# Altium integrated library Xilinx XC4000 XL.IntLib: 450 symbols (part 37 of 49)
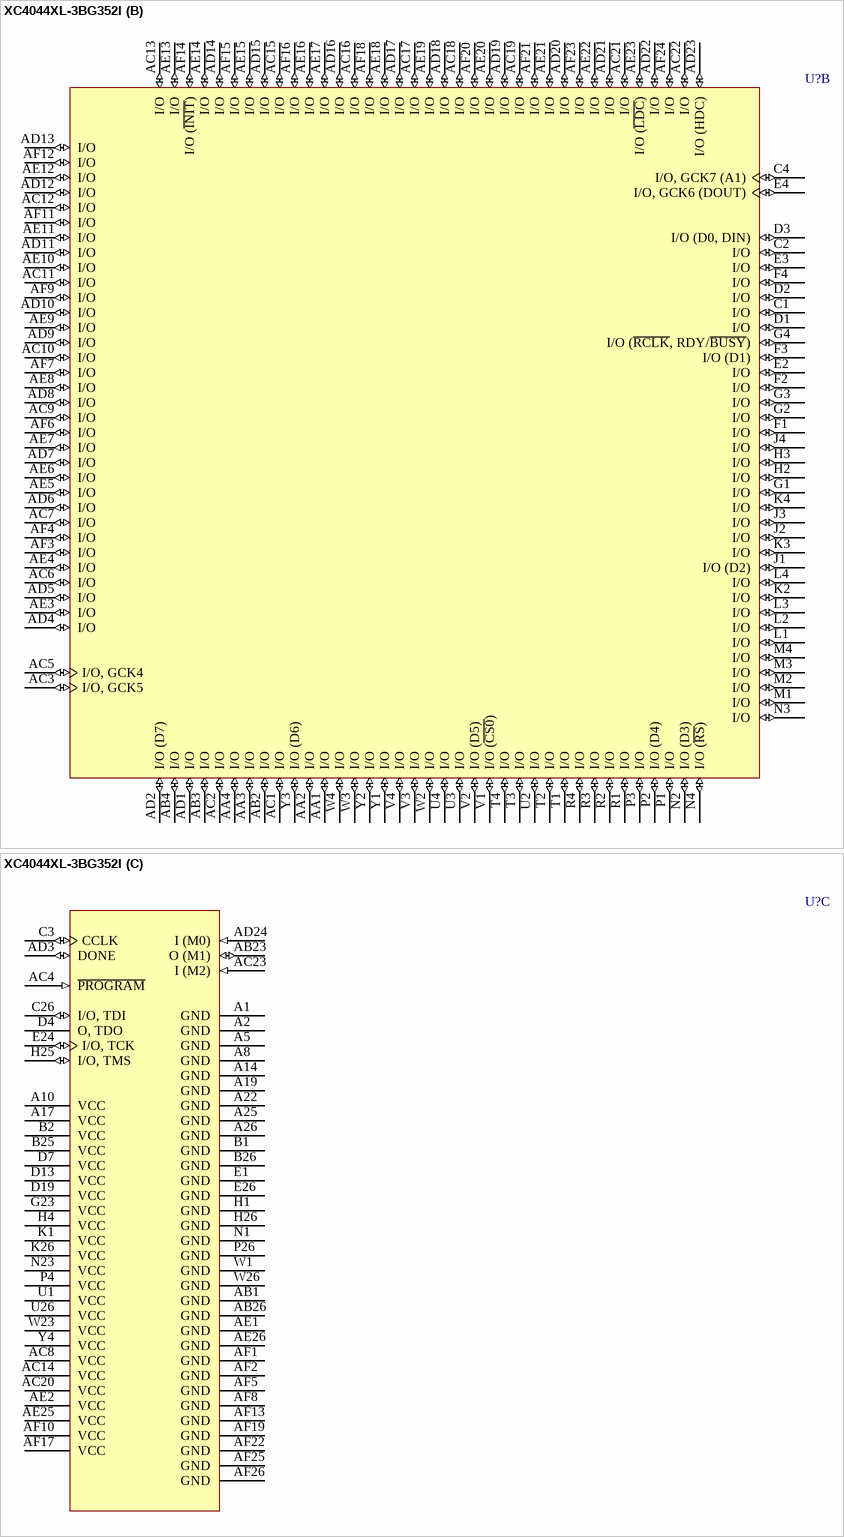
[diagram p435: symbol XC4044XL-3BG352I]

## XC4052XL-2HQ240I
designator U?
XC4000XL FPGA, 240-Pin HQFP, Industrial Grade; PackageDocument: ver1.1, Oct-2002; Published: 28-Feb-2003; DatasheetDocument: (v1.6) May-99; PackageReference: HQ240; Publisher: Altium Limited; Code_JEDEC: MO-143-GA
footprint HQ240 (240-Pin Heat Sink Quad Flat Pack (HQ240))
part A pins: 2 I/O, GCK1 (A16) (io), 3 I/O (A17) (io), 4 I/O (io), 5 I/O (io), 8 I/O (io), 9 I/O (io), 10 I/O (io), 11 I/O (io), 12 I/O (io), 13 I/O (io), 15 I/O (io), 16 I/O (io), 18 I/O (io), 20 I/O (io), 21 I/O (io), 23 I/O (io), 24 I/O (io), 25 I/O (io), 26 I/O (io), 27 I/O (io), 28 I/O (io), 31 I/O (io), 32 I/O (io), 33 I/O (io), 34 I/O (io), 35 I/O (io), 36 I/O (io), 38 I/O (io), 39 I/O (io), 41 I/O (io), 42 I/O (io), 43 I/O (io), 44 I/O (io), 46 I/O (io), 47 I/O (io), 48 I/O (io), 49 I/O (io), 50 I/O (io), 51 I/O (io), 52 I/O (io), 53 I/O (io), 54 I/O (io), 55 I/O (io), 56 I/O (io), 57 I/O, GCK2 (io), 63 I/O, GCK3 (io), 64 I/O (HDC) (io), 65 I/O (io), 66 I/O (io), 67 I/O (io), 68 I/O (~{LDC}) (io), 69 I/O (io), 70 I/O (io), 71 I/O (io), 72 I/O (io), 73 I/O (io), 74 I/O (io), 76 I/O (io), 77 I/O (io), 78 I/O (io), 79 I/O (io), 81 I/O (io), 82 I/O (io), 84 I/O (io), 85 I/O (io), 86 I/O (io), 87 I/O (io), 88 I/O (io), 89 I/O (~{INIT}) (io), 92 I/O (io), 93 I/O (io), 94 I/O (io), 95 I/O (io), 96 I/O (io), 97 I/O (io), 99 I/O (io), 100 I/O (io), 102 I/O (io), 103 I/O (io), 104 I/O (io), 105 I/O (io), 107 I/O (io), 108 I/O (io), 109 I/O (io), 110 I/O (io), 111 I/O (io), 112 I/O (io), 113 I/O (io), 114 I/O (io), 115 I/O (io), 116 I/O (io), 117 I/O (io), 118 I/O, GCK4 (io), 123 I/O (D7) (io), 124 I/O, GCK5 (io), 125 I/O (io), 126 I/O (io), 127 I/O (io), 128 I/O (io), 129 I/O (D6) (io), 130 I/O (io), 131 I/O (io), 132 I/O (io), 133 I/O (io), 134 I/O (io), 136 I/O (io), 137 I/O (io), 138 I/O (io), 139 I/O (io), 141 I/O (D5) (io), 142 I/O (~{CS0}) (io), 144 I/O (io), 145 I/O (io), 146 I/O (io), 147 I/O (io), 148 I/O (D4) (io), 149 I/O (io), 152 I/O (D3) (io), 153 I/O (~{RS}) (io), 154 I/O (io), 155 I/O (io), 156 I/O (io), 157 I/O (io), 159 I/O (D2) (io), 160 I/O (io), 162 I/O (io), 163 I/O (io), 164 I/O (io), 165 I/O (io), 167 I/O (io), 168 I/O (io), 169 I/O (io), 170 I/O (io), 171 I/O (io), 172 I/O (io), 173 I/O (D1) (io), 174 I/O (~{RCLK}, RDY/~{BUSY}) (io), 175 I/O (io), 176 I/O (io), 177 I/O (D0, DIN) (io), 178 I/O, GCK6 (DOUT) (io), 183 I/O (A0, ~{WS}) (io), 184 I/O, GCK7 (A1) (io), 185 I/O (io), 186 I/O (io), 187 I/O (CS1, A2) (io), 188 I/O (A3) (io), 189 I/O (io), 190 I/O (io), 191 I/O (io), 192 I/O (io), 193 I/O (io), 194 I/O (io), 195 I/O (io), 197 I/O (io), 198 I/O (io), 199 I/O (io), 200 I/O (io), 202 I/O (A4) (io), 203 I/O (A5) (io), 205 I/O (io), 206 I/O (io), 207 I/O (A21) (io), 208 I/O (A20) (io), 209 I/O (A6) (io), 210 I/O (A7) (io), 213 I/O (A8) (io), 214 I/O (A9) (io), 215 I/O (A19) (io), 216 I/O (A18) (io), 217 I/O (io), 218 I/O (io), 220 I/O (A10) (io), 221 I/O (A11) (io), 223 I/O (io), 224 I/O (io), 225 I/O (io), 226 I/O (io), 228 I/O (io), 229 I/O (io), 230 I/O (io), 231 I/O (io), 232 I/O (A12) (io), 233 I/O (A13) (io), 234 I/O (io), 235 I/O (io), 236 I/O (io), 237 I/O (io), 238 I/O (A14) (io), 239 I/O, GCK8 (A15) (io)
part B pins: 1 GND (power), 6 I/O, TDI (io), 7 I/O, TCK (io), 14 GND (power), 17 I/O, TMS (io), 19 VCC (power), 22 GND (power), 29 GND (power), 30 VCC (power), 37 GND (power), 40 VCC (power), 45 GND (power), 58 O (M1) (io), 59 GND (power), 60 I (M0) (in), 61 VCC (power), 62 I (M2) (in), 75 GND (power), 80 VCC (power), 83 GND (power), 90 VCC (power), 91 GND (power), 98 GND (power), 101 VCC (power), 106 GND (power), 119 GND (power), 120 DONE (io), 121 VCC (power), 122 ~{PROGRAM} (in), 135 GND (power), 140 VCC (power), 143 GND (power), 150 VCC (power), 151 GND (power), 158 GND (power), 161 VCC (power), 166 GND (power), 179 CCLK (io), 180 VCC (power), 181 O, TDO (hiz), 182 GND (power), 196 GND (power), 201 VCC (power), 204 GND (power), 211 GND (power), 212 VCC (power), 219 GND (power), 222 VCC (power), 227 GND (power), 240 VCC (power)

## XC4052XL-2HQ304C
designator U?
XC4000XL FPGA, 304-Pin HQFP, Commercial Grade; PackageDocument: ver1.1, Oct-2002; Published: 28-Feb-2003; DatasheetDocument: (v1.6) May-99; PackageReference: HQ304; Publisher: Altium Limited; Code_JEDEC: MO-143-JA
footprint HQ304 (304-Pin Heat Sink Quad Flat Pack (HQ304))
part A pins: 2 I/O, GCK8 (A15) (215) (io), 3 I/O (A14) (212) (io), 4 I/O (209) (io), 5 I/O (206) (io), 6 I/O (203) (io), 7 I/O (200) (io), 8 I/O (191) (io), 9 I/O (188) (io), 10 I/O (A13) (185) (io), 12 I/O (A12) (182) (io), 13 I/O (179) (io), 14 I/O (176) (io), 15 I/O (173) (io), 16 I/O (170) (io), 17 I/O (167) (io), 18 I/O (164) (io), 20 I/O (161) (io), 21 I/O (158) (io), 22 I/O (155) (io), 23 I/O (152) (io), 26 I/O (149) (io), 27 I/O (146) (io), 28 I/O (137) (io), 29 I/O (134) (io), 30 I/O (A11) (131) (io), 31 I/O (A10) (128) (io), 32 I/O (125) (io), 33 I/O (122) (io), 34 I/O (A18) (119) (io), 35 I/O (A19) (116) (io), 36 I/O (A9) (113) (io), 37 I/O (A8) (110) (io), 40 I/O (A7) (107) (io), 41 I/O (A6) (104) (io), 42 I/O (A20) (101) (io), 43 I/O (A21) (98) (io), 44 I/O (95) (io), 45 I/O (92) (io), 46 I/O (A5) (89) (io), 47 I/O (A4) (86) (io), 48 I/O (83) (io), 49 I/O (80) (io), 50 I/O (71) (io), 51 I/O (68) (io), 54 I/O (65) (io), 55 I/O (62) (io), 56 I/O (59) (io), 57 I/O (56) (io), 59 I/O (53) (io), 60 I/O (50) (io), 61 I/O (47) (io), 62 I/O (44) (io), 63 I/O (41) (io), 64 I/O (38) (io), 65 I/O (35) (io), 66 I/O (32) (io), 67 I/O (29) (io), 68 I/O (26) (io), 69 I/O (A3) (23) (io), 70 I/O (CS1, A2) (20) (io), 71 I/O (11) (io), 72 I/O (8) (io), 74 I/O (A0, ~{WS}) (2) (io), 226 I/O, GCK3 (439) (io), 232 I/O, GCK2 (431) (io), 233 I/O (428) (io), 234 I/O (425) (io), 235 I/O (422) (io), 236 I/O (413) (io), 237 I/O (410) (io), 238 I/O (407) (io), 239 I/O (404) (io), 240 I/O (401) (io), 241 I/O (398) (io), 242 I/O (395) (io), 243 I/O (392) (io), 244 I/O (389) (io), 245 I/O (386) (io), 246 I/O (383) (io), 247 I/O (380) (io), 249 I/O (377) (io), 250 I/O (374) (io), 251 I/O (371) (io), 252 I/O (368) (io), 255 I/O (365) (io), 256 I/O (362) (io), 257 I/O (353) (io), 258 I/O (350) (io), 259 I/O (347) (io), 260 I/O (344) (io), 261 I/O (341) (io), 262 I/O (338) (io), 263 I/O (335) (io), 264 I/O (332) (io), 265 I/O (329) (io), 266 I/O (326) (io), 269 I/O (323) (io), 270 I/O (320) (io), 271 I/O (317) (io), 272 I/O (314) (io), 273 I/O (311) (io), 274 I/O (308) (io), 275 I/O (305) (io), 276 I/O (302) (io), 277 I/O (299) (io), 278 I/O (296) (io), 279 I/O (287) (io), 280 I/O (284) (io), 283 I/O (281) (io), 285 I/O (275) (io), 286 I/O (272) (io), 288 I/O (269) (io), 289 I/O (266) (io), 290 I/O (263) (io), 291 I/O (260) (io), 292 I/O (257) (io), 293 I/O (254) (io), 294 I/O (251) (io), 295 I/O (248) (io), 296 I/O (245) (io), 297 I/O (242) (io), 300 I/O (227) (io), 301 I/O (224) (io), 302 I/O (A17) (221) (io), 303 I/O, GCK1 (A16) (218) (io)
part B pins: 73 I/O, GCK7 (A1) (5) (io), 79 I/O, GCK6 (DOUT) (868) (io), 80 I/O (D0, DIN) (865) (io), 81 I/O (862) (io), 82 I/O (859) (io), 83 I/O (856) (io), 84 I/O (853) (io), 85 I/O (~{RCLK}, RDY/~{BUSY}) (844) (io), 86 I/O (D1) (841) (io), 87 I/O (838) (io), 88 I/O (835) (io), 89 I/O (832) (io), 90 I/O (829) (io), 91 I/O (826) (io), 92 I/O (823) (io), 93 I/O (820) (io), 94 I/O (817) (io), 96 I/O (814) (io), 97 I/O (811) (io), 98 I/O (808) (io), 99 I/O (805) (io), 102 I/O (802) (io), 103 I/O (D2) (799) (io), 104 I/O (790) (io), 105 I/O (787) (io), 106 I/O (784) (io), 107 I/O (781) (io), 108 I/O (778) (io), 109 I/O (775) (io), 110 I/O (772) (io), 111 I/O (769) (io), 112 I/O (~{RS}) (766) (io), 113 I/O (D3) (763) (io), 116 I/O (760) (io), 117 I/O (D4) (757) (io), 118 I/O (754) (io), 119 I/O (751) (io), 120 I/O (748) (io), 121 I/O (745) (io), 122 I/O (742) (io), 123 I/O (739) (io), 124 I/O (736) (io), 125 I/O (733) (io), 126 I/O (~{CS0}) (724) (io), 127 I/O (D5) (721) (io), 130 I/O (718) (io), 131 I/O (715) (io), 132 I/O (712) (io), 133 I/O (709) (io), 135 I/O (706) (io), 136 I/O (703) (io), 137 I/O (700) (io), 138 I/O (697) (io), 139 I/O (694) (io), 140 I/O (691) (io), 141 I/O (688) (io), 142 I/O (D6) (685) (io), 143 I/O (682) (io), 144 I/O (679) (io), 145 I/O (676) (io), 146 I/O (673) (io), 147 I/O (664) (io), 148 I/O (661) (io), 149 I/O, GCK5 (658) (io), 150 I/O (D7) (655) (io), 155 I/O, GCK4 (652) (io), 156 I/O (649) (io), 157 I/O (646) (io), 158 I/O (643) (io), 159 I/O (634) (io), 160 I/O (631) (io), 161 I/O (628) (io), 162 I/O (625) (io), 163 I/O (622) (io), 164 I/O (619) (io), 165 I/O (616) (io), 166 I/O (613) (io), 167 I/O (610) (io), 168 I/O (607) (io), 169 I/O (604) (io), 170 I/O (601) (io), 172 I/O (598) (io), 173 I/O (595) (io), 174 I/O (592) (io), 175 I/O (589) (io), 178 I/O (586) (io), 179 I/O (583) (io), 180 I/O (574) (io), 181 I/O (571) (io), 182 I/O (568) (io), 183 I/O (565) (io), 184 I/O (562) (io), 185 I/O (559) (io), 186 I/O (556) (io), 187 I/O (553) (io), 188 I/O (550) (io), 189 I/O (547) (io), 192 I/O (~{INIT}) (544) (io), 193 I/O (541) (io), 194 I/O (538) (io), 195 I/O (535) (io), 196 I/O (532) (io), 197 I/O (529) (io), 198 I/O (526) (io), 199 I/O (523) (io), 200 I/O (520) (io), 201 I/O (517) (io), 202 I/O (508) (io), 203 I/O (505) (io), 206 I/O (502) (io), 207 I/O (499) (io), 208 I/O (496) (io), 209 I/O (493) (io), 211 I/O (490) (io), 212 I/O (487) (io), 213 I/O (484) (io), 214 I/O (481) (io), 215 I/O (478) (io), 216 I/O (475) (io), 217 I/O (472) (io), 218 I/O (469) (io), 219 I/O (466) (io), 220 I/O (463) (io), 221 I/O (~{LDC}) (454) (io), 222 I/O (451) (io), 223 I/O (448) (io), 224 I/O (445) (io), 225 I/O (HDC) (442) (io)
part C pins: 1 VCC (power), 11 NC, 19 GND (power), 24 NC, 25 VCC (power), 38 VCC (power), 39 GND (power), 52 VCC (power), 53 NC, 58 GND (power), 75 GND (power), 76 O, TDO (0) (hiz), 77 VCC (power), 78 CCLK (io), 95 GND (power), 100 NC, 101 VCC (power), 114 GND (power), 115 VCC (power), 128 NC, 129 VCC (power), 134 GND (power), 151 ~{PROGRAM} (in), 152 VCC (power), 153 DONE (io), 154 GND (power), 171 GND (power), 176 NC, 177 VCC (power), 190 GND (power), 191 VCC (power), 204 VCC (power), 205 NC, 210 GND (power), 227 I (M2) (438) (in), 228 VCC (power), 229 I (M0) (437) (in), 230 GND (power), 231 O (M1) (434) (io), 248 GND (power), 253 VCC (power), 254 NC, 267 VCC (power), 268 GND (power), 281 NC, 282 VCC (power), 284 I/O, TMS (278) (io), 287 GND (power), 298 I/O, TCK (233) (io), 299 I/O, TDI (230) (io), 304 GND (power)

## XC4052XL-2HQ304I
designator U?
XC4000XL FPGA, 304-Pin HQFP, Industrial Grade; PackageDocument: ver1.1, Oct-2002; Published: 28-Feb-2003; DatasheetDocument: (v1.6) May-99; PackageReference: HQ304; Publisher: Altium Limited; Code_JEDEC: MO-143-JA
footprint HQ304 (304-Pin Heat Sink Quad Flat Pack (HQ304))
part A pins: 2 I/O, GCK8 (A15) (215) (io), 3 I/O (A14) (212) (io), 4 I/O (209) (io), 5 I/O (206) (io), 6 I/O (203) (io), 7 I/O (200) (io), 8 I/O (191) (io), 9 I/O (188) (io), 10 I/O (A13) (185) (io), 12 I/O (A12) (182) (io), 13 I/O (179) (io), 14 I/O (176) (io), 15 I/O (173) (io), 16 I/O (170) (io), 17 I/O (167) (io), 18 I/O (164) (io), 20 I/O (161) (io), 21 I/O (158) (io), 22 I/O (155) (io), 23 I/O (152) (io), 26 I/O (149) (io), 27 I/O (146) (io), 28 I/O (137) (io), 29 I/O (134) (io), 30 I/O (A11) (131) (io), 31 I/O (A10) (128) (io), 32 I/O (125) (io), 33 I/O (122) (io), 34 I/O (A18) (119) (io), 35 I/O (A19) (116) (io), 36 I/O (A9) (113) (io), 37 I/O (A8) (110) (io), 40 I/O (A7) (107) (io), 41 I/O (A6) (104) (io), 42 I/O (A20) (101) (io), 43 I/O (A21) (98) (io), 44 I/O (95) (io), 45 I/O (92) (io), 46 I/O (A5) (89) (io), 47 I/O (A4) (86) (io), 48 I/O (83) (io), 49 I/O (80) (io), 50 I/O (71) (io), 51 I/O (68) (io), 54 I/O (65) (io), 55 I/O (62) (io), 56 I/O (59) (io), 57 I/O (56) (io), 59 I/O (53) (io), 60 I/O (50) (io), 61 I/O (47) (io), 62 I/O (44) (io), 63 I/O (41) (io), 64 I/O (38) (io), 65 I/O (35) (io), 66 I/O (32) (io), 67 I/O (29) (io), 68 I/O (26) (io), 69 I/O (A3) (23) (io), 70 I/O (CS1, A2) (20) (io), 71 I/O (11) (io), 72 I/O (8) (io), 74 I/O (A0, ~{WS}) (2) (io), 226 I/O, GCK3 (439) (io), 232 I/O, GCK2 (431) (io), 233 I/O (428) (io), 234 I/O (425) (io), 235 I/O (422) (io), 236 I/O (413) (io), 237 I/O (410) (io), 238 I/O (407) (io), 239 I/O (404) (io), 240 I/O (401) (io), 241 I/O (398) (io), 242 I/O (395) (io), 243 I/O (392) (io), 244 I/O (389) (io), 245 I/O (386) (io), 246 I/O (383) (io), 247 I/O (380) (io), 249 I/O (377) (io), 250 I/O (374) (io), 251 I/O (371) (io), 252 I/O (368) (io), 255 I/O (365) (io), 256 I/O (362) (io), 257 I/O (353) (io), 258 I/O (350) (io), 259 I/O (347) (io), 260 I/O (344) (io), 261 I/O (341) (io), 262 I/O (338) (io), 263 I/O (335) (io), 264 I/O (332) (io), 265 I/O (329) (io), 266 I/O (326) (io), 269 I/O (323) (io), 270 I/O (320) (io), 271 I/O (317) (io), 272 I/O (314) (io), 273 I/O (311) (io), 274 I/O (308) (io), 275 I/O (305) (io), 276 I/O (302) (io), 277 I/O (299) (io), 278 I/O (296) (io), 279 I/O (287) (io), 280 I/O (284) (io), 283 I/O (281) (io), 285 I/O (275) (io), 286 I/O (272) (io), 288 I/O (269) (io), 289 I/O (266) (io), 290 I/O (263) (io), 291 I/O (260) (io), 292 I/O (257) (io), 293 I/O (254) (io), 294 I/O (251) (io), 295 I/O (248) (io), 296 I/O (245) (io), 297 I/O (242) (io), 300 I/O (227) (io), 301 I/O (224) (io), 302 I/O (A17) (221) (io), 303 I/O, GCK1 (A16) (218) (io)
part B pins: 73 I/O, GCK7 (A1) (5) (io), 79 I/O, GCK6 (DOUT) (868) (io), 80 I/O (D0, DIN) (865) (io), 81 I/O (862) (io), 82 I/O (859) (io), 83 I/O (856) (io), 84 I/O (853) (io), 85 I/O (~{RCLK}, RDY/~{BUSY}) (844) (io), 86 I/O (D1) (841) (io), 87 I/O (838) (io), 88 I/O (835) (io), 89 I/O (832) (io), 90 I/O (829) (io), 91 I/O (826) (io), 92 I/O (823) (io), 93 I/O (820) (io), 94 I/O (817) (io), 96 I/O (814) (io), 97 I/O (811) (io), 98 I/O (808) (io), 99 I/O (805) (io), 102 I/O (802) (io), 103 I/O (D2) (799) (io), 104 I/O (790) (io), 105 I/O (787) (io), 106 I/O (784) (io), 107 I/O (781) (io), 108 I/O (778) (io), 109 I/O (775) (io), 110 I/O (772) (io), 111 I/O (769) (io), 112 I/O (~{RS}) (766) (io), 113 I/O (D3) (763) (io), 116 I/O (760) (io), 117 I/O (D4) (757) (io), 118 I/O (754) (io), 119 I/O (751) (io), 120 I/O (748) (io), 121 I/O (745) (io), 122 I/O (742) (io), 123 I/O (739) (io), 124 I/O (736) (io), 125 I/O (733) (io), 126 I/O (~{CS0}) (724) (io), 127 I/O (D5) (721) (io), 130 I/O (718) (io), 131 I/O (715) (io), 132 I/O (712) (io), 133 I/O (709) (io), 135 I/O (706) (io), 136 I/O (703) (io), 137 I/O (700) (io), 138 I/O (697) (io), 139 I/O (694) (io), 140 I/O (691) (io), 141 I/O (688) (io), 142 I/O (D6) (685) (io), 143 I/O (682) (io), 144 I/O (679) (io), 145 I/O (676) (io), 146 I/O (673) (io), 147 I/O (664) (io), 148 I/O (661) (io), 149 I/O, GCK5 (658) (io), 150 I/O (D7) (655) (io), 155 I/O, GCK4 (652) (io), 156 I/O (649) (io), 157 I/O (646) (io), 158 I/O (643) (io), 159 I/O (634) (io), 160 I/O (631) (io), 161 I/O (628) (io), 162 I/O (625) (io), 163 I/O (622) (io), 164 I/O (619) (io), 165 I/O (616) (io), 166 I/O (613) (io), 167 I/O (610) (io), 168 I/O (607) (io), 169 I/O (604) (io), 170 I/O (601) (io), 172 I/O (598) (io), 173 I/O (595) (io), 174 I/O (592) (io), 175 I/O (589) (io), 178 I/O (586) (io), 179 I/O (583) (io), 180 I/O (574) (io), 181 I/O (571) (io), 182 I/O (568) (io), 183 I/O (565) (io), 184 I/O (562) (io), 185 I/O (559) (io), 186 I/O (556) (io), 187 I/O (553) (io), 188 I/O (550) (io), 189 I/O (547) (io), 192 I/O (~{INIT}) (544) (io), 193 I/O (541) (io), 194 I/O (538) (io), 195 I/O (535) (io), 196 I/O (532) (io), 197 I/O (529) (io), 198 I/O (526) (io), 199 I/O (523) (io), 200 I/O (520) (io), 201 I/O (517) (io), 202 I/O (508) (io), 203 I/O (505) (io), 206 I/O (502) (io), 207 I/O (499) (io), 208 I/O (496) (io), 209 I/O (493) (io), 211 I/O (490) (io), 212 I/O (487) (io), 213 I/O (484) (io), 214 I/O (481) (io), 215 I/O (478) (io), 216 I/O (475) (io), 217 I/O (472) (io), 218 I/O (469) (io), 219 I/O (466) (io), 220 I/O (463) (io), 221 I/O (~{LDC}) (454) (io), 222 I/O (451) (io), 223 I/O (448) (io), 224 I/O (445) (io), 225 I/O (HDC) (442) (io)
part C pins: 1 VCC (power), 11 NC, 19 GND (power), 24 NC, 25 VCC (power), 38 VCC (power), 39 GND (power), 52 VCC (power), 53 NC, 58 GND (power), 75 GND (power), 76 O, TDO (0) (hiz), 77 VCC (power), 78 CCLK (io), 95 GND (power), 100 NC, 101 VCC (power), 114 GND (power), 115 VCC (power), 128 NC, 129 VCC (power), 134 GND (power), 151 ~{PROGRAM} (in), 152 VCC (power), 153 DONE (io), 154 GND (power), 171 GND (power), 176 NC, 177 VCC (power), 190 GND (power), 191 VCC (power), 204 VCC (power), 205 NC, 210 GND (power), 227 I (M2) (438) (in), 228 VCC (power), 229 I (M0) (437) (in), 230 GND (power), 231 O (M1) (434) (io), 248 GND (power), 253 VCC (power), 254 NC, 267 VCC (power), 268 GND (power), 281 NC, 282 VCC (power), 284 I/O, TMS (278) (io), 287 GND (power), 298 I/O, TCK (233) (io), 299 I/O, TDI (230) (io), 304 GND (power)

## XC4052XL-2PG411C
designator U?
XC4000XL FPGA, 411-Pin PGA, Commercial Grade; PackageDocument: ver1.1, Apr-2001; Published: 28-Feb-2003; DatasheetDocument: (v1.6) May-99; PackageReference: PG411; Publisher: Altium Limited; Code_JEDEC: MO-128-AM
footprint PG411 (411-Pin Ceramic Pin Grid Array (PG411))
part A pins: A5 I/O (io), A7 I/O (io), A13 I/O (io), A15 I/O (io), A17 I/O (io), A23 I/O (io), A25 I/O (io), A27 I/O (io), A33 I/O (io), A35 I/O (io), AA3 I/O (A6) (io), AA5 I/O (A20) (io), AB2 I/O (io), AB4 I/O (A5) (io), AB6 I/O (io), AC1 I/O (io), AC3 I/O (io), AC5 I/O (io), AD2 I/O (A4) (io), AD4 I/O (A21) (io), AD6 I/O (io), AE1 I/O (io), AE3 I/O (io), AE5 I/O (io), AF2 I/O (io), AF6 I/O (io), AG1 I/O (io), AG3 I/O (io), AG5 I/O (io), AH2 I/O (io), AH4 I/O (io), AH6 I/O (io), AJ3 I/O (io), AJ5 I/O (io), AK2 I/O (io), AK4 I/O (io), AK6 I/O (CS1, A2) (io), AL3 I/O (io), AL5 I/O (io), AL7 I/O (io), AM2 I/O (io), AM4 I/O (io), AM6 I/O (io), AM8 I/O (io), AN1 I/O (io), AN3 I/O (A3) (io), AN5 I/O (io), AP2 I/O (io), AR1 I/O (io), AR3 I/O (io), AT2 I/O (io), AT4 I/O (A0, ~{WS}) (io), B4 I/O (io), B6 I/O (io), B8 I/O (io), B10 I/O (io), B12 I/O (io), B14 I/O (io), B16 I/O (io), B18 I/O (io), B20 I/O (io), B22 I/O (io), B24 I/O (io), B26 I/O (io), B28 I/O (io), B30 I/O (io), B32 I/O (io), B34 I/O (io), B36 I/O, GCK2 (io), B38 I/O (io), C3 I/O (io), C5 I/O (io), C7 I/O (io), C9 I/O (io), C11 I/O (io), C13 I/O (io), C15 I/O (io), C17 I/O (io), C19 I/O (io), C21 I/O (io), C23 I/O (io), C25 I/O (io), C27 I/O (io), C29 I/O (io), C31 I/O (io), C33 I/O (io), C35 I/O (io), D2 I/O (io), D4 I/O (io), D8 I/O (io), D10 I/O (io), D12 I/O (io), D16 I/O (io), D18 I/O (io), D22 I/O (io), D24 I/O (io), D28 I/O (io), D30 I/O (io), D32 I/O (io), D36 I/O, GCK3 (io), E1 I/O (io), E3 I/O (io), E5 I/O (A14) (io), E7 I/O (io), E9 I/O (io), E13 I/O (io), E15 I/O (io), E17 I/O (io), E19 I/O (io), E21 I/O (io), E23 I/O (io), E25 I/O (io), E27 I/O (io), E29 I/O (io), E31 I/O (io), E33 I/O (io), F2 I/O (io), F6 I/O (A17) (io), F8 I/O (io), F10 I/O (io), F12 I/O (io), F14 I/O (io), F16 I/O (io), F18 I/O (io), F20 I/O (io), F22 I/O (io), F24 I/O (io), F26 I/O (io), F28 I/O (io), F30 I/O (io), F32 I/O (io), G1 I/O (io), G3 I/O (A13) (io), G5 I/O (io), G7 I/O, GCK8 (A15) (io), G31 I/O (io), H2 I/O (io), H4 I/O (A12) (io), H6 I/O (io), H8 I/O, GCK1 (A16) (io), H32 I/O (io), J3 I/O (io), J5 I/O (io), J7 I/O (io), K2 I/O (io), K4 I/O (io), K6 I/O (io), L3 I/O (io), L5 I/O (io), M2 I/O (io), M4 I/O (io), M6 I/O (io), N1 I/O (io), N3 I/O (io), N5 I/O (io), P2 I/O (io), P6 I/O (io), R1 I/O (A11) (io), R3 I/O (io), R5 I/O (io), T2 I/O (A18) (io), T4 I/O (io), T6 I/O (io), U1 I/O (io), U3 I/O (A10) (io), U5 I/O (io), V2 I/O (io), V4 I/O (A19) (io), V6 I/O (io), W3 I/O (A8) (io), W5 I/O (io), Y2 I/O (A9) (io), Y6 I/O (A7) (io)
part B pins: AA35 I/O (io), AA37 I/O (io), AB34 I/O (io), AB36 I/O (io), AB38 I/O (io), AC35 I/O (io), AC37 I/O (io), AC39 I/O (io), AD34 I/O (io), AD36 I/O (io), AD38 I/O (io), AE35 I/O (io), AE37 I/O (io), AE39 I/O (io), AF34 I/O (io), AF38 I/O (io), AG35 I/O (io), AG37 I/O (io), AG39 I/O (io), AH34 I/O (io), AH36 I/O (io), AH38 I/O (io), AJ35 I/O (io), AJ37 I/O (io), AK34 I/O (io), AK36 I/O (io), AK38 I/O (io), AL33 I/O (io), AL35 I/O (io), AL37 I/O (io), AM32 I/O (D7) (io), AM34 I/O (io), AM36 I/O (io), AM38 I/O (io), AN9 I/O (io), AN31 I/O (io), AN35 I/O (io), AN37 I/O (io), AN39 I/O (io), AP6 I/O (D0, DIN) (io), AP8 I/O (io), AP10 I/O (io), AP12 I/O (io), AP14 I/O (io), AP16 I/O (io), AP18 I/O (io), AP20 I/O (D4) (io), AP22 I/O (io), AP24 I/O (D5) (io), AP26 I/O (io), AP28 I/O (io), AP30 I/O (io), AP32 I/O (io), AP34 I/O, GCK5 (io), AP38 I/O (io), AR7 I/O (io), AR9 I/O (io), AR11 I/O (io), AR13 I/O (io), AR15 I/O (D2) (io), AR17 I/O (io), AR19 I/O (io), AR21 I/O (io), AR23 I/O (io), AR25 I/O (io), AR27 I/O (io), AR29 I/O (io), AR31 I/O (io), AR33 I/O (io), AR37 I/O (io), AR39 I/O (io), AT8 I/O (io), AT10 I/O (io), AT12 I/O (io), AT16 I/O (io), AT18 I/O (io), AT22 I/O (io), AT24 I/O (io), AT28 I/O (io), AT30 I/O (io), AT32 I/O (io), AT36 I/O, GCK4 (io), AT38 I/O (io), AU3 I/O, GCK6 (DOUT) (io), AU5 I/O (io), AU7 I/O (D1) (io), AU9 I/O (io), AU11 I/O (io), AU13 I/O (io), AU15 I/O (io), AU17 I/O (io), AU19 I/O (D3) (io), AU21 I/O (io), AU23 I/O (io), AU25 I/O (io), AU27 I/O (~{CS0}) (io), AU29 I/O (io), AU31 I/O (io), AU33 I/O (io), AU35 I/O (io), AU37 I/O (io), AV2 I/O, GCK7 (A1) (io), AV4 I/O (io), AV6 I/O (io), AV8 I/O (io), AV10 I/O (io), AV12 I/O (io), AV14 I/O (io), AV16 I/O (io), AV18 I/O (io), AV20 I/O (~{RS}) (io), AV22 I/O (io), AV24 I/O (io), AV26 I/O (io), AV28 I/O (io), AV30 I/O (io), AV32 I/O (D6) (io), AV34 I/O (io), AV36 I/O (io), AV38 I/O (io), AW1 I/O (io), AW5 I/O (io), AW7 I/O (~{RCLK}, RDY/~{BUSY}) (io), AW13 I/O (io), AW15 I/O (io), AW17 I/O (io), AW23 I/O (io), AW25 I/O (io), AW27 I/O (io), AW33 I/O (io), AW35 I/O (io), AW39 I/O (io), C37 I/O (HDC) (io), D38 I/O (io), E37 I/O (io), E39 I/O (io), F34 I/O (io), F38 I/O (io), G35 I/O (~{LDC}) (io), G37 I/O (io), G39 I/O (io), H34 I/O (io), H36 I/O (io), H38 I/O (io), J33 I/O (io), J35 I/O (io), J37 I/O (io), K34 I/O (io), K36 I/O (io), K38 I/O (io), L35 I/O (io), L37 I/O (io), M34 I/O (io), M36 I/O (io), M38 I/O (io), N35 I/O (io), N37 I/O (io), N39 I/O (io), P34 I/O (io), P38 I/O (io), R35 I/O (io), R37 I/O (io), R39 I/O (io), T34 I/O (io), T36 I/O (io), T38 I/O (io), U35 I/O (io), U37 I/O (io), U39 I/O (io), V34 I/O (io), V36 I/O (io), V38 I/O (io), W35 I/O (io), W37 I/O (~{INIT}) (io), Y34 I/O (io), Y38 I/O (io)
part C pins: A3 VCC (power), A9 GND (power), A11 VCC (power), A19 GND (power), A21 VCC (power), A29 GND (power), A31 VCC (power), A37 GND (power), A39 O (M1) (io), AA1 GND (power), AA39 VCC (power), AF4 GND (power), AF36 GND (power), AJ1 VCC (power), AJ39 GND (power), AL1 GND (power), AL39 VCC (power), AN7 O, TDO (hiz), AN33 ~{PROGRAM} (in), AP4 VCC (power), AP36 GND (power), AR5 CCLK (io), AR35 DONE (io), AT6 GND (power), AT14 GND (power), AT20 GND (power), AT26 GND (power), AT34 VCC (power), AU1 VCC (power), AU39 GND (power), AW3 GND (power), AW9 VCC (power), AW11 GND (power), AW19 VCC (power), AW21 GND (power), AW29 VCC (power), AW31 GND (power), AW37 VCC (power), B2 I/O, TDI (io), C1 GND (power), C39 VCC (power), D6 VCC (power), D14 GND (power), D20 GND (power), D26 GND (power), D34 GND (power), E11 I/O, TMS (io), E35 I (M0) (in), F4 GND (power), F36 VCC (power), G9 I/O, TCK (io), G33 I (M2) (in), J1 VCC (power), J39 GND (power), L1 GND (power), L39 VCC (power), P4 GND (power), P36 GND (power), W1 VCC (power), W39 GND (power), Y4 GND (power), Y36 GND (power)

## XC4052XL-2PG411I
designator U?
XC4000XL FPGA, 411-Pin PGA, Industrial Grade; PackageDocument: ver1.1, Apr-2001; Published: 28-Feb-2003; DatasheetDocument: (v1.6) May-99; PackageReference: PG411; Publisher: Altium Limited; Code_JEDEC: MO-128-AM
footprint PG411 (411-Pin Ceramic Pin Grid Array (PG411))
part A pins: A5 I/O (io), A7 I/O (io), A13 I/O (io), A15 I/O (io), A17 I/O (io), A23 I/O (io), A25 I/O (io), A27 I/O (io), A33 I/O (io), A35 I/O (io), AA3 I/O (A6) (io), AA5 I/O (A20) (io), AB2 I/O (io), AB4 I/O (A5) (io), AB6 I/O (io), AC1 I/O (io), AC3 I/O (io), AC5 I/O (io), AD2 I/O (A4) (io), AD4 I/O (A21) (io), AD6 I/O (io), AE1 I/O (io), AE3 I/O (io), AE5 I/O (io), AF2 I/O (io), AF6 I/O (io), AG1 I/O (io), AG3 I/O (io), AG5 I/O (io), AH2 I/O (io), AH4 I/O (io), AH6 I/O (io), AJ3 I/O (io), AJ5 I/O (io), AK2 I/O (io), AK4 I/O (io), AK6 I/O (CS1, A2) (io), AL3 I/O (io), AL5 I/O (io), AL7 I/O (io), AM2 I/O (io), AM4 I/O (io), AM6 I/O (io), AM8 I/O (io), AN1 I/O (io), AN3 I/O (A3) (io), AN5 I/O (io), AP2 I/O (io), AR1 I/O (io), AR3 I/O (io), AT2 I/O (io), AT4 I/O (A0, ~{WS}) (io), B4 I/O (io), B6 I/O (io), B8 I/O (io), B10 I/O (io), B12 I/O (io), B14 I/O (io), B16 I/O (io), B18 I/O (io), B20 I/O (io), B22 I/O (io), B24 I/O (io), B26 I/O (io), B28 I/O (io), B30 I/O (io), B32 I/O (io), B34 I/O (io), B36 I/O, GCK2 (io), B38 I/O (io), C3 I/O (io), C5 I/O (io), C7 I/O (io), C9 I/O (io), C11 I/O (io), C13 I/O (io), C15 I/O (io), C17 I/O (io), C19 I/O (io), C21 I/O (io), C23 I/O (io), C25 I/O (io), C27 I/O (io), C29 I/O (io), C31 I/O (io), C33 I/O (io), C35 I/O (io), D2 I/O (io), D4 I/O (io), D8 I/O (io), D10 I/O (io), D12 I/O (io), D16 I/O (io), D18 I/O (io), D22 I/O (io), D24 I/O (io), D28 I/O (io), D30 I/O (io), D32 I/O (io), D36 I/O, GCK3 (io), E1 I/O (io), E3 I/O (io), E5 I/O (A14) (io), E7 I/O (io), E9 I/O (io), E13 I/O (io), E15 I/O (io), E17 I/O (io), E19 I/O (io), E21 I/O (io), E23 I/O (io), E25 I/O (io), E27 I/O (io), E29 I/O (io), E31 I/O (io), E33 I/O (io), F2 I/O (io), F6 I/O (A17) (io), F8 I/O (io), F10 I/O (io), F12 I/O (io), F14 I/O (io), F16 I/O (io), F18 I/O (io), F20 I/O (io), F22 I/O (io), F24 I/O (io), F26 I/O (io), F28 I/O (io), F30 I/O (io), F32 I/O (io), G1 I/O (io), G3 I/O (A13) (io), G5 I/O (io), G7 I/O, GCK8 (A15) (io), G31 I/O (io), H2 I/O (io), H4 I/O (A12) (io), H6 I/O (io), H8 I/O, GCK1 (A16) (io), H32 I/O (io), J3 I/O (io), J5 I/O (io), J7 I/O (io), K2 I/O (io), K4 I/O (io), K6 I/O (io), L3 I/O (io), L5 I/O (io), M2 I/O (io), M4 I/O (io), M6 I/O (io), N1 I/O (io), N3 I/O (io), N5 I/O (io), P2 I/O (io), P6 I/O (io), R1 I/O (A11) (io), R3 I/O (io), R5 I/O (io), T2 I/O (A18) (io), T4 I/O (io), T6 I/O (io), U1 I/O (io), U3 I/O (A10) (io), U5 I/O (io), V2 I/O (io), V4 I/O (A19) (io), V6 I/O (io), W3 I/O (A8) (io), W5 I/O (io), Y2 I/O (A9) (io), Y6 I/O (A7) (io)
part B pins: AA35 I/O (io), AA37 I/O (io), AB34 I/O (io), AB36 I/O (io), AB38 I/O (io), AC35 I/O (io), AC37 I/O (io), AC39 I/O (io), AD34 I/O (io), AD36 I/O (io), AD38 I/O (io), AE35 I/O (io), AE37 I/O (io), AE39 I/O (io), AF34 I/O (io), AF38 I/O (io), AG35 I/O (io), AG37 I/O (io), AG39 I/O (io), AH34 I/O (io), AH36 I/O (io), AH38 I/O (io), AJ35 I/O (io), AJ37 I/O (io), AK34 I/O (io), AK36 I/O (io), AK38 I/O (io), AL33 I/O (io), AL35 I/O (io), AL37 I/O (io), AM32 I/O (D7) (io), AM34 I/O (io), AM36 I/O (io), AM38 I/O (io), AN9 I/O (io), AN31 I/O (io), AN35 I/O (io), AN37 I/O (io), AN39 I/O (io), AP6 I/O (D0, DIN) (io), AP8 I/O (io), AP10 I/O (io), AP12 I/O (io), AP14 I/O (io), AP16 I/O (io), AP18 I/O (io), AP20 I/O (D4) (io), AP22 I/O (io), AP24 I/O (D5) (io), AP26 I/O (io), AP28 I/O (io), AP30 I/O (io), AP32 I/O (io), AP34 I/O, GCK5 (io), AP38 I/O (io), AR7 I/O (io), AR9 I/O (io), AR11 I/O (io), AR13 I/O (io), AR15 I/O (D2) (io), AR17 I/O (io), AR19 I/O (io), AR21 I/O (io), AR23 I/O (io), AR25 I/O (io), AR27 I/O (io), AR29 I/O (io), AR31 I/O (io), AR33 I/O (io), AR37 I/O (io), AR39 I/O (io), AT8 I/O (io), AT10 I/O (io), AT12 I/O (io), AT16 I/O (io), AT18 I/O (io), AT22 I/O (io), AT24 I/O (io), AT28 I/O (io), AT30 I/O (io), AT32 I/O (io), AT36 I/O, GCK4 (io), AT38 I/O (io), AU3 I/O, GCK6 (DOUT) (io), AU5 I/O (io), AU7 I/O (D1) (io), AU9 I/O (io), AU11 I/O (io), AU13 I/O (io), AU15 I/O (io), AU17 I/O (io), AU19 I/O (D3) (io), AU21 I/O (io), AU23 I/O (io), AU25 I/O (io), AU27 I/O (~{CS0}) (io), AU29 I/O (io), AU31 I/O (io), AU33 I/O (io), AU35 I/O (io), AU37 I/O (io), AV2 I/O, GCK7 (A1) (io), AV4 I/O (io), AV6 I/O (io), AV8 I/O (io), AV10 I/O (io), AV12 I/O (io), AV14 I/O (io), AV16 I/O (io), AV18 I/O (io), AV20 I/O (~{RS}) (io), AV22 I/O (io), AV24 I/O (io), AV26 I/O (io), AV28 I/O (io), AV30 I/O (io), AV32 I/O (D6) (io), AV34 I/O (io), AV36 I/O (io), AV38 I/O (io), AW1 I/O (io), AW5 I/O (io), AW7 I/O (~{RCLK}, RDY/~{BUSY}) (io), AW13 I/O (io), AW15 I/O (io), AW17 I/O (io), AW23 I/O (io), AW25 I/O (io), AW27 I/O (io), AW33 I/O (io), AW35 I/O (io), AW39 I/O (io), C37 I/O (HDC) (io), D38 I/O (io), E37 I/O (io), E39 I/O (io), F34 I/O (io), F38 I/O (io), G35 I/O (~{LDC}) (io), G37 I/O (io), G39 I/O (io), H34 I/O (io), H36 I/O (io), H38 I/O (io), J33 I/O (io), J35 I/O (io), J37 I/O (io), K34 I/O (io), K36 I/O (io), K38 I/O (io), L35 I/O (io), L37 I/O (io), M34 I/O (io), M36 I/O (io), M38 I/O (io), N35 I/O (io), N37 I/O (io), N39 I/O (io), P34 I/O (io), P38 I/O (io), R35 I/O (io), R37 I/O (io), R39 I/O (io), T34 I/O (io), T36 I/O (io), T38 I/O (io), U35 I/O (io), U37 I/O (io), U39 I/O (io), V34 I/O (io), V36 I/O (io), V38 I/O (io), W35 I/O (io), W37 I/O (~{INIT}) (io), Y34 I/O (io), Y38 I/O (io)
part C pins: A3 VCC (power), A9 GND (power), A11 VCC (power), A19 GND (power), A21 VCC (power), A29 GND (power), A31 VCC (power), A37 GND (power), A39 O (M1) (io), AA1 GND (power), AA39 VCC (power), AF4 GND (power), AF36 GND (power), AJ1 VCC (power), AJ39 GND (power), AL1 GND (power), AL39 VCC (power), AN7 O, TDO (hiz), AN33 ~{PROGRAM} (in), AP4 VCC (power), AP36 GND (power), AR5 CCLK (io), AR35 DONE (io), AT6 GND (power), AT14 GND (power), AT20 GND (power), AT26 GND (power), AT34 VCC (power), AU1 VCC (power), AU39 GND (power), AW3 GND (power), AW9 VCC (power), AW11 GND (power), AW19 VCC (power), AW21 GND (power), AW29 VCC (power), AW31 GND (power), AW37 VCC (power), B2 I/O, TDI (io), C1 GND (power), C39 VCC (power), D6 VCC (power), D14 GND (power), D20 GND (power), D26 GND (power), D34 GND (power), E11 I/O, TMS (io), E35 I (M0) (in), F4 GND (power), F36 VCC (power), G9 I/O, TCK (io), G33 I (M2) (in), J1 VCC (power), J39 GND (power), L1 GND (power), L39 VCC (power), P4 GND (power), P36 GND (power), W1 VCC (power), W39 GND (power), Y4 GND (power), Y36 GND (power)

## XC4052XL-3BG432C
designator U?
XC4000XL FPGA, 432-Ball BGA, Commercial Grade; PackageDocument: ver1.1, Apr-2001; Published: 28-Feb-2003; DatasheetDocument: (v1.6) May-99; PackageReference: BG432; Publisher: Altium Limited
footprint BG432 (432-Ball Metal Ball Grid Array (BG432))
part A pins: A4 I/O (io), A5 I/O (CS1, A2) (io), A6 I/O (io), A8 I/O (io), A10 I/O (io), A12 I/O (io), A13 I/O (A5) (io), A15 I/O (io), A16 I/O (A7) (io), A17 I/O (A9) (io), A19 I/O (io), A20 I/O (io), A22 I/O (io), A24 I/O (io), A26 I/O (io), A27 I/O (io), A28 I/O (io), AA29 I/O (io), AA30 I/O (io), AB28 I/O (io), AB29 I/O (io), AB30 I/O (io), AB31 I/O (io), AC28 I/O (io), AC29 I/O (io), AC30 I/O (io), AD28 I/O (io), AD29 I/O (io), AD30 I/O (io), AD31 I/O (io), AE28 I/O (io), AE29 I/O (io), AE30 I/O (io), AF28 I/O (io), AF29 I/O (io), AF30 I/O (io), AF31 I/O (io), AG28 I/O (io), AG29 I/O (io), AG30 I/O (io), AG31 I/O (io), AH30 I/O (io), AH31 I/O (io), AJ30 I/O, GCK2 (io), AK29 I/O, GCK3 (io), B3 I/O (A0, ~{WS}) (io), B4 I/O (io), B5 I/O (io), B6 I/O (io), B7 I/O (io), B8 I/O (io), B9 I/O (io), B10 I/O (io), B11 I/O (io), B12 I/O (io), B13 I/O (io), B14 I/O (io), B15 I/O (A20) (io), B16 I/O (A6) (io), B17 I/O (io), B18 I/O (io), B19 I/O (A10) (io), B20 I/O (io), B21 I/O (io), B22 I/O (io), B23 I/O (io), B24 I/O (io), B25 I/O (io), B26 I/O (A13) (io), B27 I/O (io), B28 I/O (io), B29 I/O (io), C5 I/O (io), C6 I/O (io), C7 I/O (io), C9 I/O (io), C10 I/O (io), C11 I/O (io), C12 I/O (io), C13 I/O (io), C14 I/O (A4) (io), C15 I/O (A21) (io), C16 I/O (io), C17 I/O (io), C18 I/O (A19) (io), C19 I/O (A11) (io), C20 I/O (io), C21 I/O (io), C22 I/O (io), C23 I/O (io), C24 I/O (io), C25 I/O (io), C26 I/O (io), C27 I/O (io), C28 I/O (A14) (io), C30 I/O (A17) (io), D6 I/O (io), D7 I/O (A3) (io), D8 I/O (io), D9 I/O (io), D10 I/O (io), D12 I/O (io), D13 I/O (io), D14 I/O (io), D15 I/O (io), D17 I/O (A8) (io), D18 I/O (A18) (io), D19 I/O (io), D20 I/O (io), D22 I/O (io), D23 I/O (io), D24 I/O (A12) (io), D25 I/O (io), D26 I/O (io), D27 I/O (io), D28 I/O, GCK8 (A15) (io), D29 I/O, GCK1 (A16) (io), E28 I/O (io), E29 I/O (io), E30 I/O (io), E31 I/O (io), F28 I/O (io), F29 I/O (io), F30 I/O (io), F31 I/O (io), G28 I/O (io), G29 I/O (io), G30 I/O (io), H28 I/O (io), H29 I/O (io), H30 I/O (io), H31 I/O (io), J28 I/O (io), J29 I/O (io), J30 I/O (io), K28 I/O (io), K29 I/O (io), K31 I/O (io), L29 I/O (io), L30 I/O (io), M28 I/O (io), M29 I/O (io), M30 I/O (io), M31 I/O (io), N28 I/O (io), N29 I/O (io), N30 I/O (io), N31 I/O (io), P28 I/O (io), P29 I/O (io), P30 I/O (io), R28 I/O (io), R29 I/O (io), R30 I/O (io), R31 I/O (io), T29 I/O (io), T30 I/O (io), T31 I/O (io), U28 I/O (io), U29 I/O (io), U30 I/O (io), U31 I/O (io), V28 I/O (io), V29 I/O (io), V30 I/O (io), W28 I/O (io), W29 I/O (io), W30 I/O (io), W31 I/O (io), Y28 I/O (io), Y29 I/O (io), Y30 I/O (io), Y31 I/O (io)
part B pins: AA2 I/O (D5) (io), AA3 I/O (io), AB1 I/O (io), AB2 I/O (io), AB3 I/O (io), AB4 I/O (io), AC2 I/O (io), AC3 I/O (io), AC4 I/O (io), AD1 I/O (io), AD2 I/O (io), AD3 I/O (io), AD4 I/O (io), AE2 I/O (io), AE3 I/O (io), AE4 I/O (io), AF1 I/O (D6) (io), AF2 I/O (io), AF3 I/O (io), AF4 I/O (io), AG1 I/O (io), AG2 I/O (io), AG3 I/O (io), AG4 I/O, GCK5 (io), AH1 I/O (io), AH2 I/O (io), AH5 I/O (io), AH6 I/O (io), AH7 I/O (io), AH8 I/O (io), AH9 I/O (io), AH10 I/O (io), AH12 I/O (io), AH13 I/O (io), AH14 I/O (io), AH15 I/O (io), AH17 I/O (io), AH18 I/O (io), AH19 I/O (io), AH20 I/O (io), AH22 I/O (io), AH23 I/O (io), AH24 I/O (io), AH25 I/O (io), AH26 I/O (~{LDC}) (io), AH27 I/O (HDC) (io), AJ2 I/O (D7) (io), AJ4 I/O, GCK4 (io), AJ5 I/O (io), AJ6 I/O (io), AJ7 I/O (io), AJ8 I/O (io), AJ9 I/O (io), AJ10 I/O (io), AJ11 I/O (io), AJ12 I/O (io), AJ13 I/O (io), AJ14 I/O (io), AJ15 I/O (io), AJ16 I/O (io), AJ17 I/O (io), AJ18 I/O (io), AJ19 I/O (io), AJ20 I/O (io), AJ21 I/O (io), AJ22 I/O (io), AJ23 I/O (io), AJ24 I/O (io), AJ25 I/O (io), AJ26 I/O (io), AJ27 I/O (io), AK3 I/O (io), AK4 I/O (io), AK5 I/O (io), AK6 I/O (io), AK7 I/O (io), AK8 I/O (io), AK9 I/O (io), AK10 I/O (io), AK11 I/O (io), AK12 I/O (io), AK13 I/O (io), AK14 I/O (io), AK15 I/O (io), AK16 I/O (~{INIT}) (io), AK17 I/O (io), AK18 I/O (io), AK19 I/O (io), AK20 I/O (io), AK21 I/O (io), AK22 I/O (io), AK23 I/O (io), AK24 I/O (io), AK25 I/O (io), AK26 I/O (io), AK27 I/O (io), AK28 I/O (io), AL4 I/O (io), AL5 I/O (io), AL6 I/O (io), AL8 I/O (io), AL10 I/O (io), AL12 I/O (io), AL13 I/O (io), AL15 I/O (io), AL16 I/O (io), AL17 I/O (io), AL19 I/O (io), AL20 I/O (io), AL22 I/O (io), AL24 I/O (io), AL26 I/O (io), AL27 I/O (io), AL28 I/O (io), C2 I/O (D0, DIN) (io), D1 I/O (io), D2 I/O (io), D3 I/O, GCK6 (DOUT) (io), D5 I/O, GCK7 (A1) (io), E1 I/O (io), E2 I/O (io), E3 I/O (io), E4 I/O (io), F1 I/O (io), F2 I/O (~{RCLK}, RDY/~{BUSY}) (io), F3 I/O (io), F4 I/O (io), G2 I/O (io), G3 I/O (io), G4 I/O (D1) (io), H1 I/O (io), H2 I/O (io), H3 I/O (io), H4 I/O (io), J2 I/O (io), J3 I/O (io), J4 I/O (io), K1 I/O (io), K2 I/O (io), K3 I/O (io), K4 I/O (io), L2 I/O (D2) (io), L3 I/O (io), M1 I/O (io), M2 I/O (io), M3 I/O (io), M4 I/O (io), N1 I/O (io), N2 I/O (io), N3 I/O (io), N4 I/O (io), P2 I/O (io), P3 I/O (io), P4 I/O (io), R1 I/O (~{RS}) (io), R2 I/O (io), R3 I/O (io), R4 I/O (io), T1 I/O (D4) (io), T2 I/O (io), T3 I/O (D3) (io), U1 I/O (io), U2 I/O (io), U3 I/O (io), U4 I/O (io), V2 I/O (io), V3 I/O (io), V4 I/O (io), W1 I/O (io), W2 I/O (io), W3 I/O (io), W4 I/O (io), Y1 I/O (io), Y2 I/O (~{CS0}) (io), Y3 I/O (io), Y4 I/O (io)
part C pins: A1 VCC (power), A2 GND (power), A3 GND (power), A7 GND (power), A9 GND (power), A11 VCC (power), A14 GND (power), A18 GND (power), A21 VCC (power), A23 GND (power), A25 GND (power), A29 GND (power), A30 GND (power), A31 VCC (power), AA1 VCC (power), AA4 VCC (power), AA28 VCC (power), AA31 VCC (power), AC1 GND (power), AC31 GND (power), AE1 GND (power), AE31 GND (power), AH3 ~{PROGRAM} (in), AH4 DONE (io), AH11 VCC (power), AH16 GND (power), AH21 VCC (power), AH28 I (M0) (in), AH29 O (M1) (io), AJ1 GND (power), AJ3 VCC (power), AJ28 I (M2) (in), AJ29 VCC (power), AJ31 GND (power), AK1 GND (power), AK2 GND (power), AK30 GND (power), AK31 GND (power), AL1 VCC (power), AL2 GND (power), AL3 GND (power), AL7 GND (power), AL9 GND (power), AL11 VCC (power), AL14 GND (power), AL18 GND (power), AL21 VCC (power), AL23 GND (power), AL25 GND (power), AL29 GND (power), AL30 GND (power), AL31 VCC (power), B1 GND (power), B2 GND (power), B30 GND (power), B31 GND (power), C1 GND (power), C3 VCC (power), C4 O, TDO (hiz), C8 NC, C29 VCC (power), C31 GND (power), D4 CCLK (io), D11 VCC (power), D16 GND (power), D21 VCC (power), D30 I/O, TDI (io), D31 I/O, TCK (io), G1 GND (power), G31 GND (power), J1 GND (power), J31 GND (power), K30 I/O, TMS (io), L1 VCC (power), L4 VCC (power), L28 VCC (power), L31 VCC (power), P1 GND (power), P31 GND (power), T4 GND (power), T28 GND (power), V1 GND (power), V31 GND (power)

## XC4052XL-3BG432I
designator U?
XC4000XL FPGA, 432-Ball BGA, Industrial Grade; PackageDocument: ver1.1, Apr-2001; Published: 28-Feb-2003; DatasheetDocument: (v1.6) May-99; PackageReference: BG432; Publisher: Altium Limited
footprint BG432 (432-Ball Metal Ball Grid Array (BG432))
part A pins: A4 I/O (io), A5 I/O (CS1, A2) (io), A6 I/O (io), A8 I/O (io), A10 I/O (io), A12 I/O (io), A13 I/O (A5) (io), A15 I/O (io), A16 I/O (A7) (io), A17 I/O (A9) (io), A19 I/O (io), A20 I/O (io), A22 I/O (io), A24 I/O (io), A26 I/O (io), A27 I/O (io), A28 I/O (io), AA29 I/O (io), AA30 I/O (io), AB28 I/O (io), AB29 I/O (io), AB30 I/O (io), AB31 I/O (io), AC28 I/O (io), AC29 I/O (io), AC30 I/O (io), AD28 I/O (io), AD29 I/O (io), AD30 I/O (io), AD31 I/O (io), AE28 I/O (io), AE29 I/O (io), AE30 I/O (io), AF28 I/O (io), AF29 I/O (io), AF30 I/O (io), AF31 I/O (io), AG28 I/O (io), AG29 I/O (io), AG30 I/O (io), AG31 I/O (io), AH30 I/O (io), AH31 I/O (io), AJ30 I/O, GCK2 (io), AK29 I/O, GCK3 (io), B3 I/O (A0, ~{WS}) (io), B4 I/O (io), B5 I/O (io), B6 I/O (io), B7 I/O (io), B8 I/O (io), B9 I/O (io), B10 I/O (io), B11 I/O (io), B12 I/O (io), B13 I/O (io), B14 I/O (io), B15 I/O (A20) (io), B16 I/O (A6) (io), B17 I/O (io), B18 I/O (io), B19 I/O (A10) (io), B20 I/O (io), B21 I/O (io), B22 I/O (io), B23 I/O (io), B24 I/O (io), B25 I/O (io), B26 I/O (A13) (io), B27 I/O (io), B28 I/O (io), B29 I/O (io), C5 I/O (io), C6 I/O (io), C7 I/O (io), C9 I/O (io), C10 I/O (io), C11 I/O (io), C12 I/O (io), C13 I/O (io), C14 I/O (A4) (io), C15 I/O (A21) (io), C16 I/O (io), C17 I/O (io), C18 I/O (A19) (io), C19 I/O (A11) (io), C20 I/O (io), C21 I/O (io), C22 I/O (io), C23 I/O (io), C24 I/O (io), C25 I/O (io), C26 I/O (io), C27 I/O (io), C28 I/O (A14) (io), C30 I/O (A17) (io), D6 I/O (io), D7 I/O (A3) (io), D8 I/O (io), D9 I/O (io), D10 I/O (io), D12 I/O (io), D13 I/O (io), D14 I/O (io), D15 I/O (io), D17 I/O (A8) (io), D18 I/O (A18) (io), D19 I/O (io), D20 I/O (io), D22 I/O (io), D23 I/O (io), D24 I/O (A12) (io), D25 I/O (io), D26 I/O (io), D27 I/O (io), D28 I/O, GCK8 (A15) (io), D29 I/O, GCK1 (A16) (io), E28 I/O (io), E29 I/O (io), E30 I/O (io), E31 I/O (io), F28 I/O (io), F29 I/O (io), F30 I/O (io), F31 I/O (io), G28 I/O (io), G29 I/O (io), G30 I/O (io), H28 I/O (io), H29 I/O (io), H30 I/O (io), H31 I/O (io), J28 I/O (io), J29 I/O (io), J30 I/O (io), K28 I/O (io), K29 I/O (io), K31 I/O (io), L29 I/O (io), L30 I/O (io), M28 I/O (io), M29 I/O (io), M30 I/O (io), M31 I/O (io), N28 I/O (io), N29 I/O (io), N30 I/O (io), N31 I/O (io), P28 I/O (io), P29 I/O (io), P30 I/O (io), R28 I/O (io), R29 I/O (io), R30 I/O (io), R31 I/O (io), T29 I/O (io), T30 I/O (io), T31 I/O (io), U28 I/O (io), U29 I/O (io), U30 I/O (io), U31 I/O (io), V28 I/O (io), V29 I/O (io), V30 I/O (io), W28 I/O (io), W29 I/O (io), W30 I/O (io), W31 I/O (io), Y28 I/O (io), Y29 I/O (io), Y30 I/O (io), Y31 I/O (io)
part B pins: AA2 I/O (D5) (io), AA3 I/O (io), AB1 I/O (io), AB2 I/O (io), AB3 I/O (io), AB4 I/O (io), AC2 I/O (io), AC3 I/O (io), AC4 I/O (io), AD1 I/O (io), AD2 I/O (io), AD3 I/O (io), AD4 I/O (io), AE2 I/O (io), AE3 I/O (io), AE4 I/O (io), AF1 I/O (D6) (io), AF2 I/O (io), AF3 I/O (io), AF4 I/O (io), AG1 I/O (io), AG2 I/O (io), AG3 I/O (io), AG4 I/O, GCK5 (io), AH1 I/O (io), AH2 I/O (io), AH5 I/O (io), AH6 I/O (io), AH7 I/O (io), AH8 I/O (io), AH9 I/O (io), AH10 I/O (io), AH12 I/O (io), AH13 I/O (io), AH14 I/O (io), AH15 I/O (io), AH17 I/O (io), AH18 I/O (io), AH19 I/O (io), AH20 I/O (io), AH22 I/O (io), AH23 I/O (io), AH24 I/O (io), AH25 I/O (io), AH26 I/O (~{LDC}) (io), AH27 I/O (HDC) (io), AJ2 I/O (D7) (io), AJ4 I/O, GCK4 (io), AJ5 I/O (io), AJ6 I/O (io), AJ7 I/O (io), AJ8 I/O (io), AJ9 I/O (io), AJ10 I/O (io), AJ11 I/O (io), AJ12 I/O (io), AJ13 I/O (io), AJ14 I/O (io), AJ15 I/O (io), AJ16 I/O (io), AJ17 I/O (io), AJ18 I/O (io), AJ19 I/O (io), AJ20 I/O (io), AJ21 I/O (io), AJ22 I/O (io), AJ23 I/O (io), AJ24 I/O (io), AJ25 I/O (io), AJ26 I/O (io), AJ27 I/O (io), AK3 I/O (io), AK4 I/O (io), AK5 I/O (io), AK6 I/O (io), AK7 I/O (io), AK8 I/O (io), AK9 I/O (io), AK10 I/O (io), AK11 I/O (io), AK12 I/O (io), AK13 I/O (io), AK14 I/O (io), AK15 I/O (io), AK16 I/O (~{INIT}) (io), AK17 I/O (io), AK18 I/O (io), AK19 I/O (io), AK20 I/O (io), AK21 I/O (io), AK22 I/O (io), AK23 I/O (io), AK24 I/O (io), AK25 I/O (io), AK26 I/O (io), AK27 I/O (io), AK28 I/O (io), AL4 I/O (io), AL5 I/O (io), AL6 I/O (io), AL8 I/O (io), AL10 I/O (io), AL12 I/O (io), AL13 I/O (io), AL15 I/O (io), AL16 I/O (io), AL17 I/O (io), AL19 I/O (io), AL20 I/O (io), AL22 I/O (io), AL24 I/O (io), AL26 I/O (io), AL27 I/O (io), AL28 I/O (io), C2 I/O (D0, DIN) (io), D1 I/O (io), D2 I/O (io), D3 I/O, GCK6 (DOUT) (io), D5 I/O, GCK7 (A1) (io), E1 I/O (io), E2 I/O (io), E3 I/O (io), E4 I/O (io), F1 I/O (io), F2 I/O (~{RCLK}, RDY/~{BUSY}) (io), F3 I/O (io), F4 I/O (io), G2 I/O (io), G3 I/O (io), G4 I/O (D1) (io), H1 I/O (io), H2 I/O (io), H3 I/O (io), H4 I/O (io), J2 I/O (io), J3 I/O (io), J4 I/O (io), K1 I/O (io), K2 I/O (io), K3 I/O (io), K4 I/O (io), L2 I/O (D2) (io), L3 I/O (io), M1 I/O (io), M2 I/O (io), M3 I/O (io), M4 I/O (io), N1 I/O (io), N2 I/O (io), N3 I/O (io), N4 I/O (io), P2 I/O (io), P3 I/O (io), P4 I/O (io), R1 I/O (~{RS}) (io), R2 I/O (io), R3 I/O (io), R4 I/O (io), T1 I/O (D4) (io), T2 I/O (io), T3 I/O (D3) (io), U1 I/O (io), U2 I/O (io), U3 I/O (io), U4 I/O (io), V2 I/O (io), V3 I/O (io), V4 I/O (io), W1 I/O (io), W2 I/O (io), W3 I/O (io), W4 I/O (io), Y1 I/O (io), Y2 I/O (~{CS0}) (io), Y3 I/O (io), Y4 I/O (io)
part C pins: A1 VCC (power), A2 GND (power), A3 GND (power), A7 GND (power), A9 GND (power), A11 VCC (power), A14 GND (power), A18 GND (power), A21 VCC (power), A23 GND (power), A25 GND (power), A29 GND (power), A30 GND (power), A31 VCC (power), AA1 VCC (power), AA4 VCC (power), AA28 VCC (power), AA31 VCC (power), AC1 GND (power), AC31 GND (power), AE1 GND (power), AE31 GND (power), AH3 ~{PROGRAM} (in), AH4 DONE (io), AH11 VCC (power), AH16 GND (power), AH21 VCC (power), AH28 I (M0) (in), AH29 O (M1) (io), AJ1 GND (power), AJ3 VCC (power), AJ28 I (M2) (in), AJ29 VCC (power), AJ31 GND (power), AK1 GND (power), AK2 GND (power), AK30 GND (power), AK31 GND (power), AL1 VCC (power), AL2 GND (power), AL3 GND (power), AL7 GND (power), AL9 GND (power), AL11 VCC (power), AL14 GND (power), AL18 GND (power), AL21 VCC (power), AL23 GND (power), AL25 GND (power), AL29 GND (power), AL30 GND (power), AL31 VCC (power), B1 GND (power), B2 GND (power), B30 GND (power), B31 GND (power), C1 GND (power), C3 VCC (power), C4 O, TDO (hiz), C8 NC, C29 VCC (power), C31 GND (power), D4 CCLK (io), D11 VCC (power), D16 GND (power), D21 VCC (power), D30 I/O, TDI (io), D31 I/O, TCK (io), G1 GND (power), G31 GND (power), J1 GND (power), J31 GND (power), K30 I/O, TMS (io), L1 VCC (power), L4 VCC (power), L28 VCC (power), L31 VCC (power), P1 GND (power), P31 GND (power), T4 GND (power), T28 GND (power), V1 GND (power), V31 GND (power)